# Altium footprint library MAX14930DASE&plus_.PcbLib: 3 footprints
Each footprint in its own frame and in the unit in brackets; x right, y up, seen from the top. Pads: shape width x height; smd on the part's side, far side on the other; paste and mask are expansions set on the pad; w line width, h text height; cw(c..) or ccw(c..) is an arc to the next point about the centre after c.
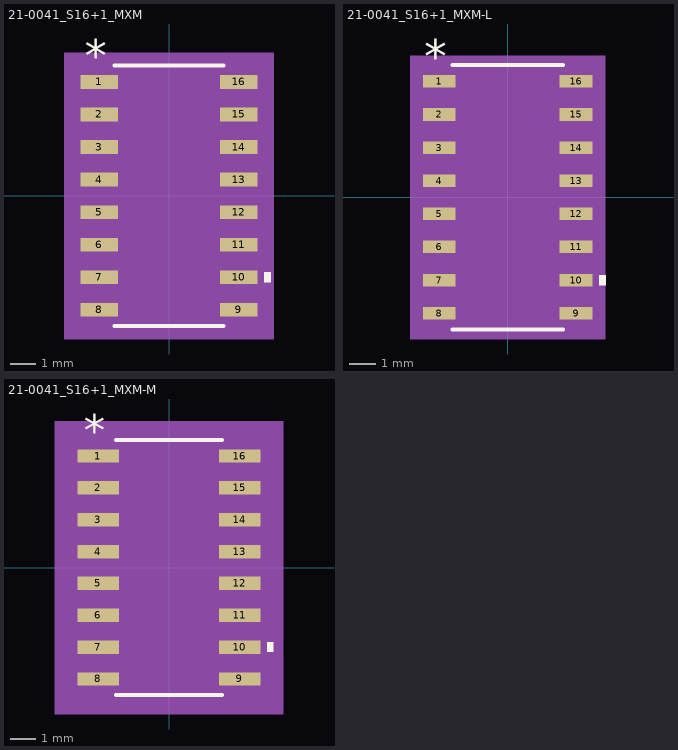
[diagram p0: the footprints below, top view; thin cyan lines are the x and y axes]

## 21-0041_S16+1_MXM [mil]
pads (16):
  rect 57.55x21 smd paste+0 mask+0: 1(-107.27,175) 2(-107.27,125) 3(-107.27,75) 4(-107.27,25) 5(-107.27,-25) 6(-107.27,-75) 7(-107.27,-125) 8(-107.27,-175) 9(107.27,-175) 10(107.27,-125) 11(107.27,-75) 12(107.27,-25) 13(107.27,25) 14(107.27,75) 15(107.27,125) 16(107.27,175)
Top Overlay:
  region: 146.05,-117.5 156.05,-117.5 156.05,-132.5 146.05,-132.5
  lines w6: -83.5,-200 83.5,-200 ; -83.5,200 83.5,200
  text "*" at -129.77,191 h50
Mechanical 5:
  region: 161.05,-220 -161.05,-220 -161.05,220 161.05,220
Mechanical 13:
  lines w0: -12,195 ccw(c0,195) 12,195
  lines w1: -122.05,-184.5 -122.05,-165.5 -78.5,-165.5 -78.5,-184.5 -122.05,-184.5 ; -122.05,-134.5 -122.05,-115.5 -78.5,-115.5 -78.5,-134.5 -122.05,-134.5 ; -122.05,-84.5 -122.05,-65.5 -78.5,-65.5 -78.5,-84.5 -122.05,-84.5 ; -122.05,-34.5 -122.05,-15.5 -78.5,-15.5 -78.5,-34.5 -122.05,-34.5 ; -122.05,15.5 -122.05,34.5 -78.5,34.5 -78.5,15.5 -122.05,15.5 ; -122.05,65.5 -122.05,84.5 -78.5,84.5 -78.5,65.5 -122.05,65.5 ; -122.05,115.5 -122.05,134.5 -78.5,134.5 -78.5,115.5 -122.05,115.5 ; -122.05,165.5 -122.05,184.5 -78.5,184.5 -78.5,165.5 -122.05,165.5 ; -78.5,-195 78.5,-195 78.5,195 -78.5,195 -78.5,-195 ; 78.5,-184.5 78.5,-165.5 122.05,-165.5 122.05,-184.5 78.5,-184.5 ; 78.5,-134.5 78.5,-115.5 122.05,-115.5 122.05,-134.5 78.5,-134.5 ; 78.5,-84.5 78.5,-65.5 122.05,-65.5 122.05,-84.5 78.5,-84.5 ; 78.5,-34.5 78.5,-15.5 122.05,-15.5 122.05,-34.5 78.5,-34.5 ; 78.5,15.5 78.5,34.5 122.05,34.5 122.05,15.5 78.5,15.5 ; 78.5,65.5 78.5,84.5 122.05,84.5 122.05,65.5 78.5,65.5 ; 78.5,115.5 78.5,134.5 122.05,134.5 122.05,115.5 78.5,115.5 ; 78.5,165.5 78.5,184.5 122.05,184.5 122.05,165.5 78.5,165.5
  text "*" at -76,142 h50
Mechanical 15:
  region: -88.5,-195.5 -146.05,-195.5 -146.05,195.5 -88.5,195.5 -88.5,205 88.5,205 88.5,195.5 146.05,195.5 146.05,-195.5 88.5,-195.5 88.5,-205 -88.5,-205
  lines w6: -146.05,-195.5 -146.05,195.5 -88.5,195.5 -88.5,205 88.5,205 88.5,195.5 146.05,195.5 146.05,-195.5 88.5,-195.5 88.5,-205 -88.5,-205 -88.5,-195.5 -146.05,-195.5
3D body "21-0041_S16+1_MXM.step": height 69.09, standoff 0, extent -122.05,-195 122.05,195

## 21-0041_S16+1_MXM-L [mil]
pads (16):
  rect 49.55x19 smd paste+0 mask+0: 1(-103.27,175) 2(-103.27,125) 3(-103.27,75) 4(-103.27,25) 5(-103.27,-25) 6(-103.27,-75) 7(-103.27,-125) 8(-103.27,-175) 9(103.27,-175) 10(103.27,-125) 11(103.27,-75) 12(103.27,-25) 13(103.27,25) 14(103.27,75) 15(103.27,125) 16(103.27,175)
Top Overlay:
  region: 138.05,-117.5 148.05,-117.5 148.05,-132.5 138.05,-132.5
  lines w6: -83.5,-200 83.5,-200 ; -83.5,200 83.5,200
  text "*" at -125.77,189 h50
Mechanical 5:
  region: 147.05,-214 -147.05,-214 -147.05,214 147.05,214
Mechanical 13:
  lines w0: -12,195 ccw(c0,195) 12,195
  lines w1: -122.05,-184.5 -122.05,-165.5 -78.5,-165.5 -78.5,-184.5 -122.05,-184.5 ; -122.05,-134.5 -122.05,-115.5 -78.5,-115.5 -78.5,-134.5 -122.05,-134.5 ; -122.05,-84.5 -122.05,-65.5 -78.5,-65.5 -78.5,-84.5 -122.05,-84.5 ; -122.05,-34.5 -122.05,-15.5 -78.5,-15.5 -78.5,-34.5 -122.05,-34.5 ; -122.05,15.5 -122.05,34.5 -78.5,34.5 -78.5,15.5 -122.05,15.5 ; -122.05,65.5 -122.05,84.5 -78.5,84.5 -78.5,65.5 -122.05,65.5 ; -122.05,115.5 -122.05,134.5 -78.5,134.5 -78.5,115.5 -122.05,115.5 ; -122.05,165.5 -122.05,184.5 -78.5,184.5 -78.5,165.5 -122.05,165.5 ; -78.5,-195 78.5,-195 78.5,195 -78.5,195 -78.5,-195 ; 78.5,-184.5 78.5,-165.5 122.05,-165.5 122.05,-184.5 78.5,-184.5 ; 78.5,-134.5 78.5,-115.5 122.05,-115.5 122.05,-134.5 78.5,-134.5 ; 78.5,-84.5 78.5,-65.5 122.05,-65.5 122.05,-84.5 78.5,-84.5 ; 78.5,-34.5 78.5,-15.5 122.05,-15.5 122.05,-34.5 78.5,-34.5 ; 78.5,15.5 78.5,34.5 122.05,34.5 122.05,15.5 78.5,15.5 ; 78.5,65.5 78.5,84.5 122.05,84.5 122.05,65.5 78.5,65.5 ; 78.5,115.5 78.5,134.5 122.05,134.5 122.05,115.5 78.5,115.5 ; 78.5,165.5 78.5,184.5 122.05,184.5 122.05,165.5 78.5,165.5
  text "*" at -76,142 h50
Mechanical 15:
  region: -82.5,-188.5 -132.05,-188.5 -132.05,188.5 -82.5,188.5 -82.5,199 82.5,199 82.5,188.5 132.05,188.5 132.05,-188.5 82.5,-188.5 82.5,-199 -82.5,-199
  lines w6: -132.05,-188.5 -132.05,188.5 -82.5,188.5 -82.5,199 82.5,199 82.5,188.5 132.05,188.5 132.05,-188.5 82.5,-188.5 82.5,-199 -82.5,-199 -82.5,-188.5 -132.05,-188.5
3D body "21-0041_S16+1_MXM.step": height 69.09, standoff 0, extent -122.05,-195 122.05,195

## 21-0041_S16+1_MXM-M [mil]
pads (16):
  rect 65.55x21 smd paste+0 mask+0: 1(-111.27,175) 2(-111.27,125) 3(-111.27,75) 4(-111.27,25) 5(-111.27,-25) 6(-111.27,-75) 7(-111.27,-125) 8(-111.27,-175) 9(111.27,-175) 10(111.27,-125) 11(111.27,-75) 12(111.27,-25) 13(111.27,25) 14(111.27,75) 15(111.27,125) 16(111.27,175)
Top Overlay:
  region: 154.05,-117.5 164.05,-117.5 164.05,-132.5 154.05,-132.5
  lines w6: -83.5,-200 83.5,-200 ; -83.5,200 83.5,200
  text "*" at -133.77,191 h50
Mechanical 5:
  region: 179.05,-230 -179.05,-230 -179.05,230 179.05,230
Mechanical 13:
  lines w0: -12,195 ccw(c0,195) 12,195
  lines w1: -122.05,-184.5 -122.05,-165.5 -78.5,-165.5 -78.5,-184.5 -122.05,-184.5 ; -122.05,-134.5 -122.05,-115.5 -78.5,-115.5 -78.5,-134.5 -122.05,-134.5 ; -122.05,-84.5 -122.05,-65.5 -78.5,-65.5 -78.5,-84.5 -122.05,-84.5 ; -122.05,-34.5 -122.05,-15.5 -78.5,-15.5 -78.5,-34.5 -122.05,-34.5 ; -122.05,15.5 -122.05,34.5 -78.5,34.5 -78.5,15.5 -122.05,15.5 ; -122.05,65.5 -122.05,84.5 -78.5,84.5 -78.5,65.5 -122.05,65.5 ; -122.05,115.5 -122.05,134.5 -78.5,134.5 -78.5,115.5 -122.05,115.5 ; -122.05,165.5 -122.05,184.5 -78.5,184.5 -78.5,165.5 -122.05,165.5 ; -78.5,-195 78.5,-195 78.5,195 -78.5,195 -78.5,-195 ; 78.5,-184.5 78.5,-165.5 122.05,-165.5 122.05,-184.5 78.5,-184.5 ; 78.5,-134.5 78.5,-115.5 122.05,-115.5 122.05,-134.5 78.5,-134.5 ; 78.5,-84.5 78.5,-65.5 122.05,-65.5 122.05,-84.5 78.5,-84.5 ; 78.5,-34.5 78.5,-15.5 122.05,-15.5 122.05,-34.5 78.5,-34.5 ; 78.5,15.5 78.5,34.5 122.05,34.5 122.05,15.5 78.5,15.5 ; 78.5,65.5 78.5,84.5 122.05,84.5 122.05,65.5 78.5,65.5 ; 78.5,115.5 78.5,134.5 122.05,134.5 122.05,115.5 78.5,115.5 ; 78.5,165.5 78.5,184.5 122.05,184.5 122.05,165.5 78.5,165.5
  text "*" at -76,142 h50
Mechanical 15:
  region: -98.5,-205.5 -164.05,-205.5 -164.05,205.5 -98.5,205.5 -98.5,215 98.5,215 98.5,205.5 164.05,205.5 164.05,-205.5 98.5,-205.5 98.5,-215 -98.5,-215
  lines w6: -164.05,-205.5 -164.05,205.5 -98.5,205.5 -98.5,215 98.5,215 98.5,205.5 164.05,205.5 164.05,-205.5 98.5,-205.5 98.5,-215 -98.5,-215 -98.5,-205.5 -164.05,-205.5
3D body "21-0041_S16+1_MXM.step": height 69.09, standoff 0, extent -122.05,-195 122.05,195